# Altium schematic symbol library 0805 5K.Schlib: 1 symbol
Pins are listed as number, name and electrical type; pins without a type are passive.

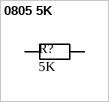
[diagram p0: symbol 0805 5K]

## 0805 5K
designator R?, comment value 5K  (hidden comment: Resistor)
5K ±0.1% 1/4W ±25ppm/℃ 0805 High Precision & Low TCR SMD Resistors RoHS; LCSC Part #: C78980; JLCPCB Part Type: Extended
footprint RES 0805_2012 (Chip Resistor, 2-Leads, Body 2.00x1.25mm, IPC Medium Density)
pins: 1, 2